# Altium schematic symbol library 封装库.SchLib: 191 symbols (part 3 of 3)
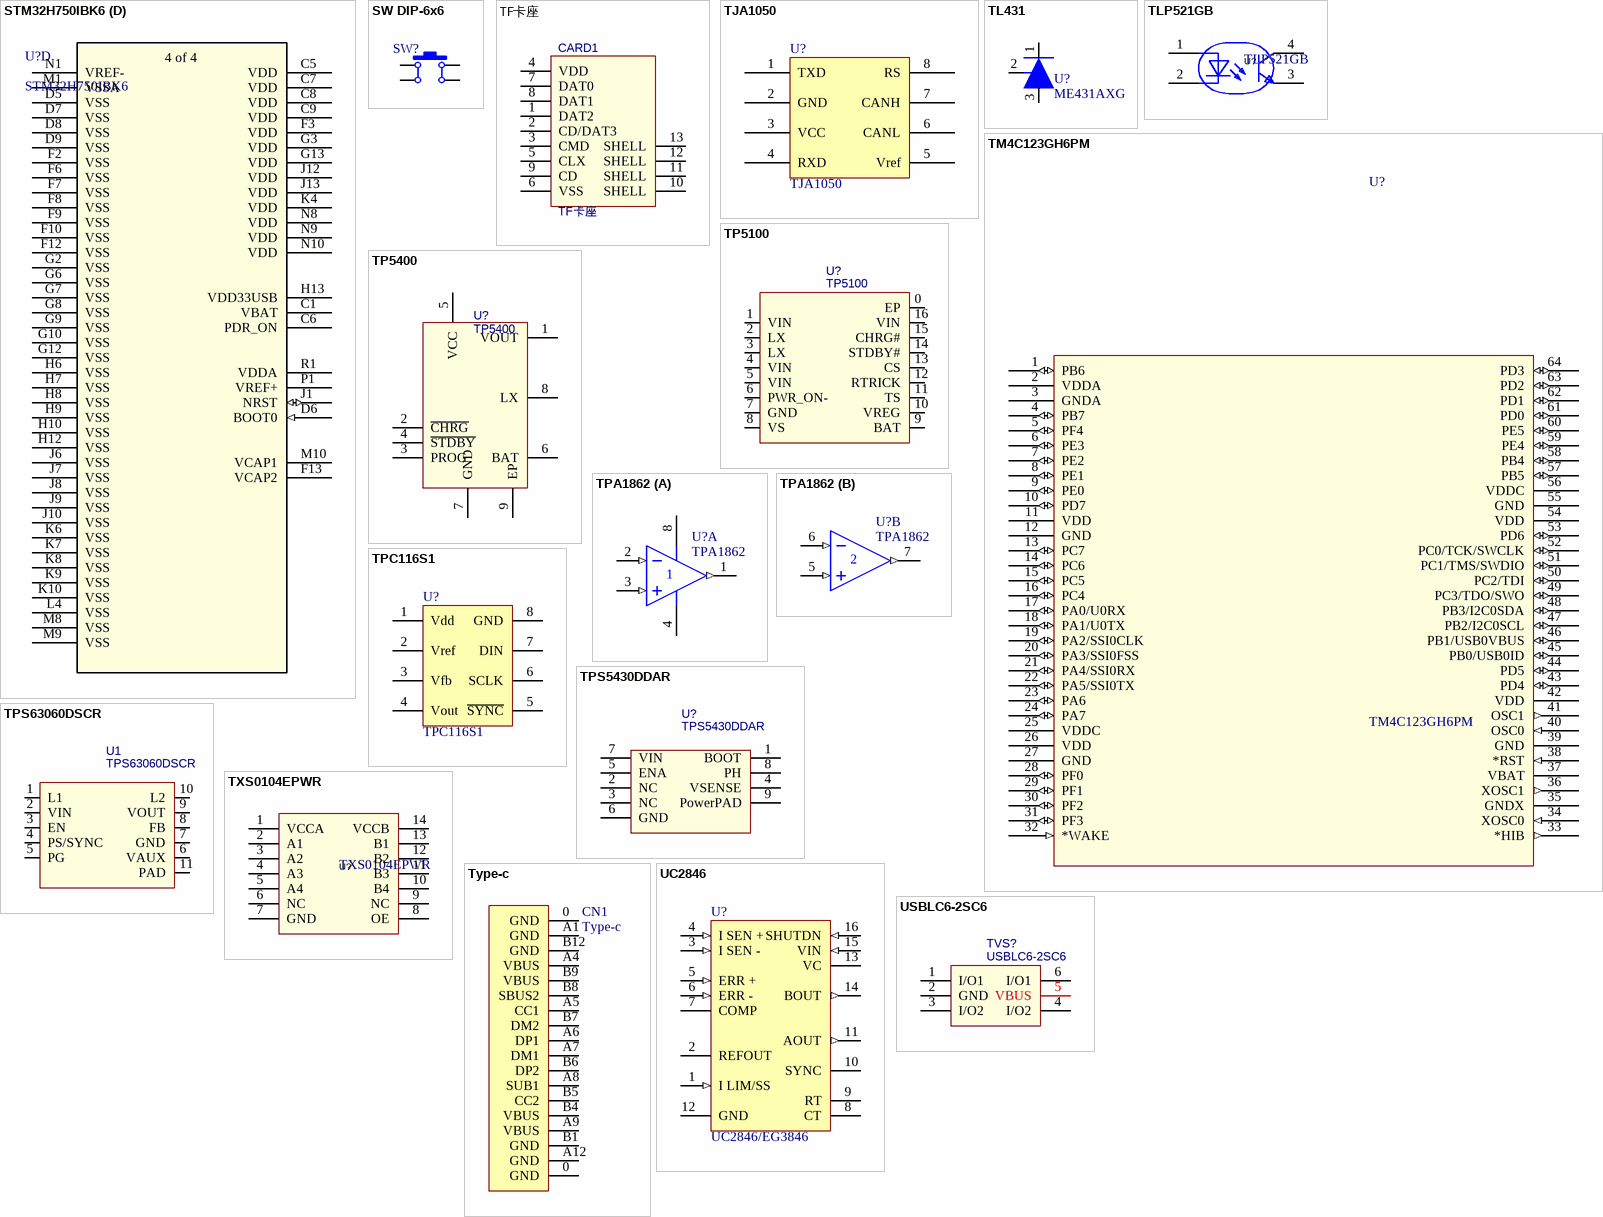
[diagram p15: symbols STM32H750IBK6 to USBLC6-2SC6]

## STM32H750IBK6
designator U?
No Description Available; Mfr_Name: STMicroelectronics; Copyright: Copyright (C) 2023 Ultra Librarian. All rights reserved.; Manufacturer_Part_Number: STM32H750IBK6; RefDes: RefDes; Type: DEV
footprint STM32H750IBK6
part A pins: A5 PB8 (io), A6 PB5 (io), A9 PB4 (io), A10 PB3 (io), A11 PD7 (io), A12 PC12 (io), A13 PA15 (io), A14 PA14 (io), A15 PA13 (io), B4 PB9 (io), B5 PB7 (io), B6 PB6 (io), B11 PD6 (io), B12 PD0 (io), B13 PC11 (io), B14 PC10 (io), B15 PA12 (io), C11 PD5 (io), C12 PD1 (io), C15 PA11 (io), D1 PC13 (io), D10 PD4 (io), D11 PD3 (io), D12 PD2 (io), D15 PA10 (io), E1 PC14-OSC32_IN (io), E15 PA9 (io), F1 PC15-OSC32_OUT (io), F14 PC9 (io), F15 PA8 (io), G14 PC8 (io), G15 PC7 (io), H15 PC6 (io), L14 PD15 (io), M2 PC0 (io), M3 PC1 (io), M4 PC2 (io), M5 PC3 (io), M6 PB2 (io), M14 PD14 (io), M15 PD13 (io), N2 PA1 (io), N3 PA0-WKUP (io), N4 PA4 (io), N5 PC4 (io), N13 PD12 (io), N14 PD11 (io), N15 PD10 (io), P2 PA2 (io), P3 PA6 (io), P4 PA5 (io), P5 PC5 (io), P12 PB12 (io), P13 PB13 (io), P14 PD9 (io), P15 PD8 (io), R2 PA3 (io), R3 PA7 (io), R4 PB1 (io), R5 PB0 (io), R12 PB10 (io), R13 PB11 (io), R14 PB14 (io), R15 PB15 (io)
part B pins: A1 PE3 (io), A2 PE2 (io), A3 PE1 (io), A4 PE0 (io), A7 PG14 (io), A8 PG13 (io), B1 PE4 (io), B2 PE5 (io), B3 PE6 (io), B7 PG15 (io), B8 PG12 (io), B9 PG11 (io), B10 PG10 (io), C10 PG9 (io), D13 PH15 (io), E2 PF0 (io), E12 PH13 (io), E13 PH14 (io), F4 PH2 (io), G1 PH0-OSC_IN (io), G4 PH3 (io), H1 PH1-OSC_OUT (io), H2 PF2 (io), H3 PF1 (io), H4 PH4 (io), H14 PG8 (io), J2 PF3 (io), J3 PF4 (io), J4 PH5 (io), J14 PG7 (io), J15 PG6 (io), K1 PF7 (io), K2 PF6 (io), K3 PF5 (io), K12 PH12 (io), K13 PG5 (io), K14 PG4 (io), K15 PG3 (io), L1 PF10 (io), L2 PF9 (io), L3 PF8 (io), L12 PH11 (io), L13 PH10 (io), L15 PG2 (io), M7 PG1 (io), M11 PH6 (io), M12 PH8 (io), M13 PH9 (io), N6 PF13 (io), N7 PG0 (io), N11 PE13 (io), N12 PH7 (io), P6 PF12 (io), P7 PF15 (io), P8 PE8 (io), P9 PE9 (io), P10 PE11 (io), P11 PE14 (io), R6 PF11 (io), R7 PF14 (io), R8 PE7 (io), R9 PE10 (io), R10 PE12 (io), R11 PE15 (io)
part C pins: C2 PI7 (io), C3 PI6 (io), C4 PI5 (io), C13 PI3 (io), C14 PI2 (io), D2 PI8 (io), D3 PI9 (io), D4 PI4 (io), D14 PI1 (io), E3 PI10 (io), E4 PI11 (io), E14 PI0 (io)
part D pins: C1 VBAT (power), C5 VDD (power), C6 PDR_ON, C7 VDD (power), C8 VDD (power), C9 VDD (power), D5 VSS (power), D6 BOOT0 (in), D7 VSS (power), D8 VSS (power), D9 VSS (power), F2 VSS (power), F3 VDD (power), F6 VSS (power), F7 VSS (power), F8 VSS (power), F9 VSS (power), F10 VSS (power), F12 VSS (power), F13 VCAP2 (power), G2 VSS (power), G3 VDD (power), G6 VSS (power), G7 VSS (power), G8 VSS (power), G9 VSS (power), G10 VSS (power), G12 VSS (power), G13 VDD (power), H6 VSS (power), H7 VSS (power), H8 VSS (power), H9 VSS (power), H10 VSS (power), H12 VSS (power), H13 VDD33USB (power), J1 NRST (io), J6 VSS (power), J7 VSS (power), J8 VSS (power), J9 VSS (power), J10 VSS (power), J12 VDD (power), J13 VDD (power), K4 VDD (power), K6 VSS (power), K7 VSS (power), K8 VSS (power), K9 VSS (power), K10 VSS (power), L4 VSS (power), M1 VSSA (power), M8 VSS (power), M9 VSS (power), M10 VCAP1 (power), N1 VREF- (power), N8 VDD (power), N9 VDD (power), N10 VDD (power), P1 VREF+ (power), R1 VDDA (power)
part A text: 1 of 4
part B text: 2 of 4
part C text: 3 of 4
part D text: 4 of 4

## SW DIP-6x6
designator SW?, comment 6x6x5  (value not drawn)
直插6x6轻触开关; 联系卖家，免费查找封装: 唯一出售店铺网址https://shop463601444.taobao.com; 封装库来自淘宝卖家ID：黄晶宝石: 其他店铺购入均为盗版假冒封装库，请立即申请退款; BOM名称: 直插6x6轻触开关
footprint SW DIP-6x6
pins: 1, 2, 3, 4

## TF卡座
designator CARD1
BOM_Manufacturer: THD; BOM_Manufacturer Part: THD2528-11SD-GF; Contributor: LCSC; BOM_Supplier: LCSC; BOM_Supplier Part: C283232; BOM_JLCPCB Part Class: Extended Part; spicePre: C; spiceSymbolName: THD2528-11SD-GF
footprint TF
pins: 1 DAT2, 2 CD/DAT3, 3 CMD, 4 VDD, 5 CLX, 6 VSS, 7 DAT0, 8 DAT1, 9 CD, 10 SHELL, 11 SHELL, 12 SHELL, 13 SHELL

## TJA1050
designator U?
footprint SOP-8
pins: 1 TXD, 2 GND, 3 VCC, 4 RXD, 5 Vref, 6 CANL, 7 CANH, 8 RS

## TL431
designator U?, comment ME431AXG
footprint TL431
pins: 1 K, 2 REF, 3 A

## TLP521GB
designator U?
C364142 UWM; Symbol: TLP521GB_C364142; Designer: U?; Device: TLP521GB_C364142
footprint TLP521
pins: 1, 2, 3, 4

## TM4C123GH6PM
designator U?
footprint TM4C123G (64脚，体宽10x10mm，脚距0.5mm         淘宝ID:黄晶宝石)
pins: 1 PB6 (io), 2 VDDA (power), 3 GNDA (power), 4 PB7 (io), 5 PF4 (io), 6 PE3 (io), 7 PE2 (io), 8 PE1 (io), 9 PE0 (io), 10 PD7 (io), 11 VDD (power), 12 GND (power), 13 PC7 (io), 14 PC6 (io), 15 PC5 (io), 16 PC4 (io), 17 PA0/U0RX (io), 18 PA1/U0TX (io), 19 PA2/SSI0CLK (io), 20 PA3/SSI0FSS (io), 21 PA4/SSI0RX (io), 22 PA5/SSI0TX (io), 23 PA6 (io), 24 PA7 (io), 25 VDDC (power), 26 VDD (power), 27 GND (power), 28 PF0 (io), 29 PF1 (io), 30 PF2 (io), 31 PF3 (io), 32 *WAKE (in), 33 *HIB (out), 34 XOSC0 (in), 35 GNDX (power), 36 XOSC1 (out), 37 VBAT (power), 38 *RST (in), 39 GND (power), 40 OSC0 (in), 41 OSC1 (out), 42 VDD (power), 43 PD4 (io), 44 PD5 (io), 45 PB0/USB0ID (io), 46 PB1/USB0VBUS (io), 47 PB2/I2C0SCL (io), 48 PB3/I2C0SDA (io), 49 PC3/TDO/SWO (io), 50 PC2/TDI (io), 51 PC1/TMS/SWDIO (io), 52 PC0/TCK/SWCLK (io), 53 PD6 (io), 54 VDD (power), 55 GND (power), 56 VDDC (power), 57 PB5 (io), 58 PB4 (io), 59 PE4 (io), 60 PE5 (io), 61 PD0 (io), 62 PD1 (io), 63 PD2 (io), 64 PD3 (io)

## TP5100
designator U?
TP5100_C379389; BOM_Manufacturer: Nanjing Extension Microelectronics; Contributor: LCSC; BOM_Supplier: LCSC; BOM_Supplier Part: C379389; BOM_Manufacturer Part: TP5100; BOM_JLCPCB Part Class: Extended Part; spicePre: U; spiceSymbolName: TP5100_C379389
footprint TP5100
pins: 0 EP, 1 VIN, 2 LX, 3 LX, 4 VIN, 5 VIN, 6 PWR_ON-, 7 GND, 8 VS, 9 BAT, 10 VREG, 11 TS, 12 RTRICK, 13 CS, 14 STDBY#, 15 CHRG#, 16 VIN

## TP5400
designator U?
C2891434; BOM_Manufacturer: TOPPOWER(南京拓微); Contributor: LCSC; BOM_Supplier: LCSC; BOM_Supplier Part: C2891434; BOM_Manufacturer Part: TP5400; BOM_JLCPCB Part Class: Extended Part; spicePre: U; spiceSymbolName: TP5400_C2891434
footprint TP5400 (5*6*1.8mm（长宽高)
pins: 1 VOUT, 2 ~{CHRG}, 3 PROG, 4 ~{STDBY}, 5 VCC, 6 BAT, 7 GND, 8 LX, 9 EP

## TPA1862
designator U?
Dual Operational Amplifier; Published: 15-Apr-2002; LatestRevisionDate: 13-Apr-2006; LatestRevisionNote: IPC-7351 Footprint Added.; DatasheetVersion: Aug-1988; PackageVersion: Jan-1998; PackageReference: D008; Publisher: Altium Limited; PackageDescription: 8-Pin Small Outline Integrated Circuit 1.27 mm Pitch; Code_IPC: SOIC127P600-8; ComponentLink1Description: Manufacturer Link; ComponentLink1URL: http://www.ti.com/; ComponentLink2Description: Datasheet; ComponentLink2URL: http://www-s.ti.com/sc/ds/lm258.pdf
footprint TPA1862-MSOP8 (塑封体长3mm，宽3mm，脚距0.65          淘宝ID:黄晶宝石)
footprint MSOP8 (塑封体长3mm，宽3mm，脚距0.65          淘宝ID:黄晶宝石)
part A pins: 1 OUT (out), 2 IN- (in), 3 IN+ (in), 4, 8
part B pins: 5 IN+ (in), 6 IN- (in), 7 OUT (out)

## TPC116S1
designator U?
footprint TPC116S1-MSOP8 (塑封体长3mm，宽3mm，脚距0.65          淘宝ID:黄晶宝石)
pins: 1 Vdd (power), 2 Vref (power), 3 Vfb, 4 Vout, 5 ~{SYNC}, 6 SCLK, 7 DIN, 8 GND (power)

## TPS5430DDAR
designator U?
BOM_Manufacturer: TI; BOM_Supplier: LCSC; BOM_Manufacturer Part: TPS5430DDAR; BOM_Supplier Part: C9864; BOM_JLCPCB Part Class: Basic Part; spicePre: U; spiceSymbolName: TPS5430DDAR
footprint TPS5430 (5*6*1.8mm（长宽高)
pins: 1 BOOT, 2 NC, 3 NC, 4 VSENSE, 5 ENA, 6 GND, 7 VIN, 8 PH, 9 PowerPAD

## TPS63060DSCR
designator U1
BOM_Manufacturer: TI; BOM_Supplier: LCSC; BOM_Manufacturer Part: TPS63060DSCR; BOM_Supplier Part: C48567; BOM_JLCPCB Part Class: Extended Part; spicePre: U; spiceSymbolName: TPS63060DSCR
footprint TPS63060DSCR
pins: 1 L1, 2 VIN, 3 EN, 4 PS/SYNC, 5 PG, 6 VAUX, 7 GND, 8 FB, 9 VOUT, 10 L2, 11 PAD

## TXS0104EPWR
designator U?
Manufacturer: TI(德州仪器); Add into BOM: yes; Channel Type: 双向; Number of Circuits: 1; Channels per Circuit: 4; Supply Voltage (VCCA): 1.65V~3.6V; Supply Voltage (VCCB): 2.3V~5.5V; Output Type: 推挽式；开路漏极; Data Rate: 24Mbps; Name: TXS0104EPWR; Symbol: TXS0104EPWR; Device: TXS0104EPWR; LCSC Part Name: TXS0104EPWR; Supplier Part: C44955; Manufacturer Part: TXS0104EPWR; Supplier Footprint: TSSOP-14; JLCPCB Part Class: Extended Part; Datasheet: https://www.ti.com/cn/lit/gpn/txs0104e; Supplier: LCSC; Convert to PCB: yes; Operating Temperature: -40℃~+85℃; Features: 自动方向检测
footprint TXS0104EPWR
pins: 1 VCCA, 2 A1, 3 A2, 4 A3, 5 A4, 6 NC, 7 GND, 8 OE, 9 NC, 10 B4, 11 B3, 12 B2, 13 B1, 14 VCCB

## Type-c
designator CN1
U262-161N-4BVC11
footprint Type-c 16pin
pins: 0 GND, 0 GND, A1 GND, A4 VBUS, A5 CC1, A6 DP1, A7 DM1, A8 SUB1, A9 VBUS, A12 GND, B1 GND, B4 VBUS, B5 CC2, B6 DP2, B7 DM2, B8 SBUS2, B9 VBUS, B12 GND

## UC2846
designator U?, comment UC2846/EG3846
footprint UC2846-SOIC-16 (SOIC, 16-Leads, Body 10.3x7.5mm, Pitch 1.27mm, IPC Medium Density)
pins: 1 I LIM/SS (in), 2 REFOUT (power), 3 I SEN - (in), 4 I SEN + (in), 5 ERR + (in), 6 ERR - (in), 7 COMP, 8 CT, 9 RT, 10 SYNC, 11 AOUT (out), 12 GND (power), 13 VC (power), 14 BOUT (out), 15 VIN (in), 16 SHUTDN (in)

## USBLC6-2SC6
designator TVS?
USBLC6-2SC6_C2687116; BOM_Manufacturer: UMW(友台半导体); Contributor: LCSC; BOM_Supplier: LCSC; BOM_Supplier Part: C2687116; BOM_Manufacturer Part: USBLC6-2SC6; BOM_JLCPCB Part Class: Extended Part; spicePre: D; spiceSymbolName: USBLC6-2SC6_C2687116
footprint USBLC6-2
pins: 1 I/O1, 2 GND, 3 I/O2, 4 I/O2, 5 VBUS, 6 I/O1

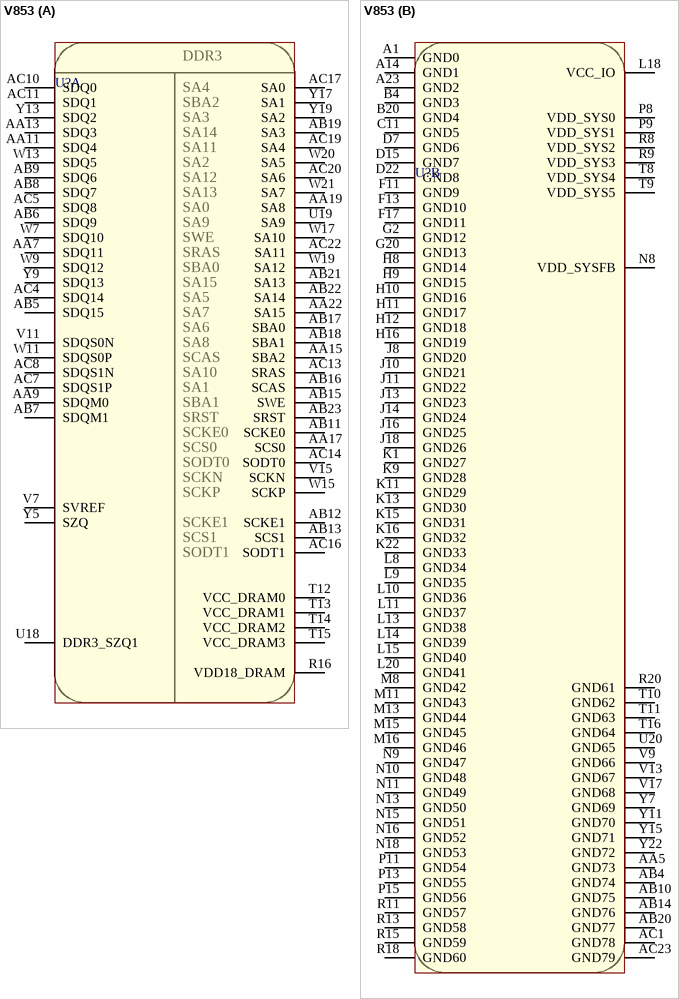
[diagram p11: symbol V853]

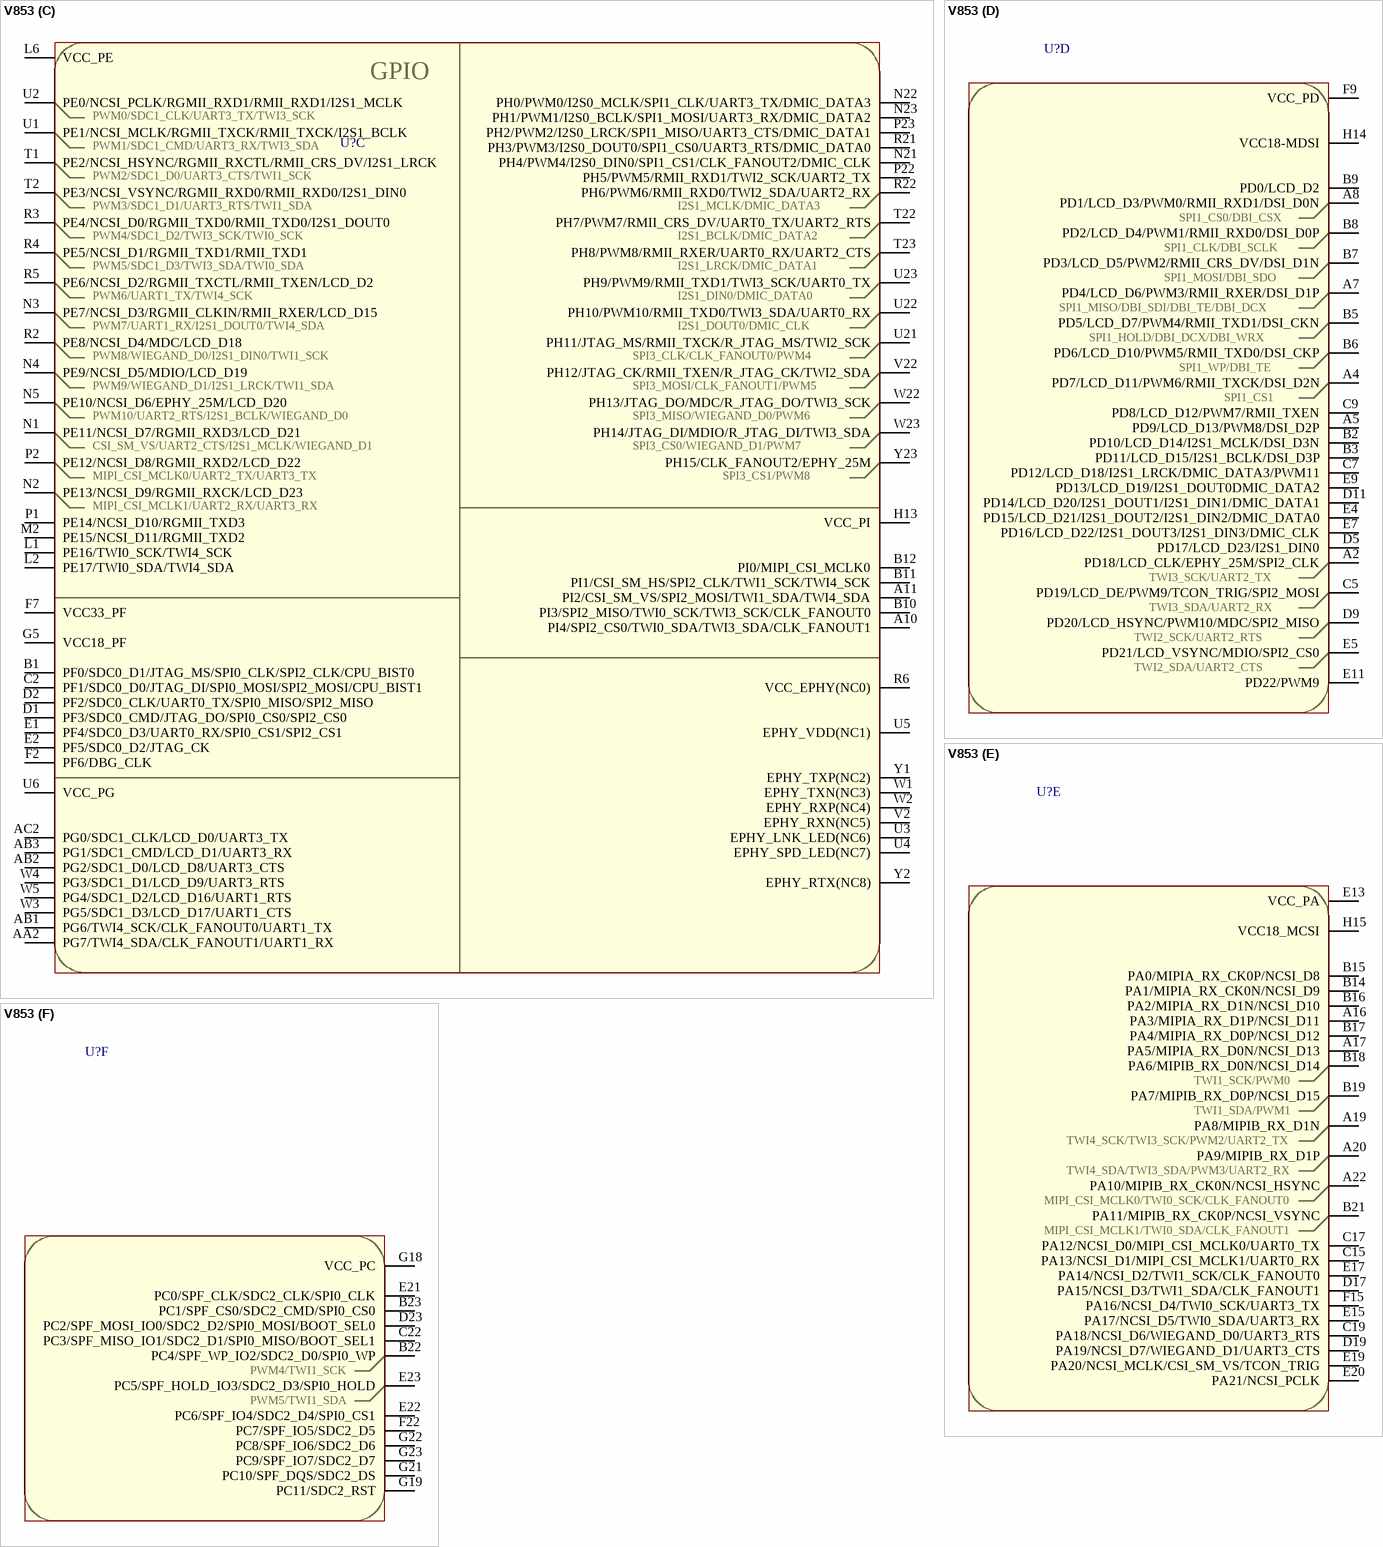
[diagram p12: symbol V853]

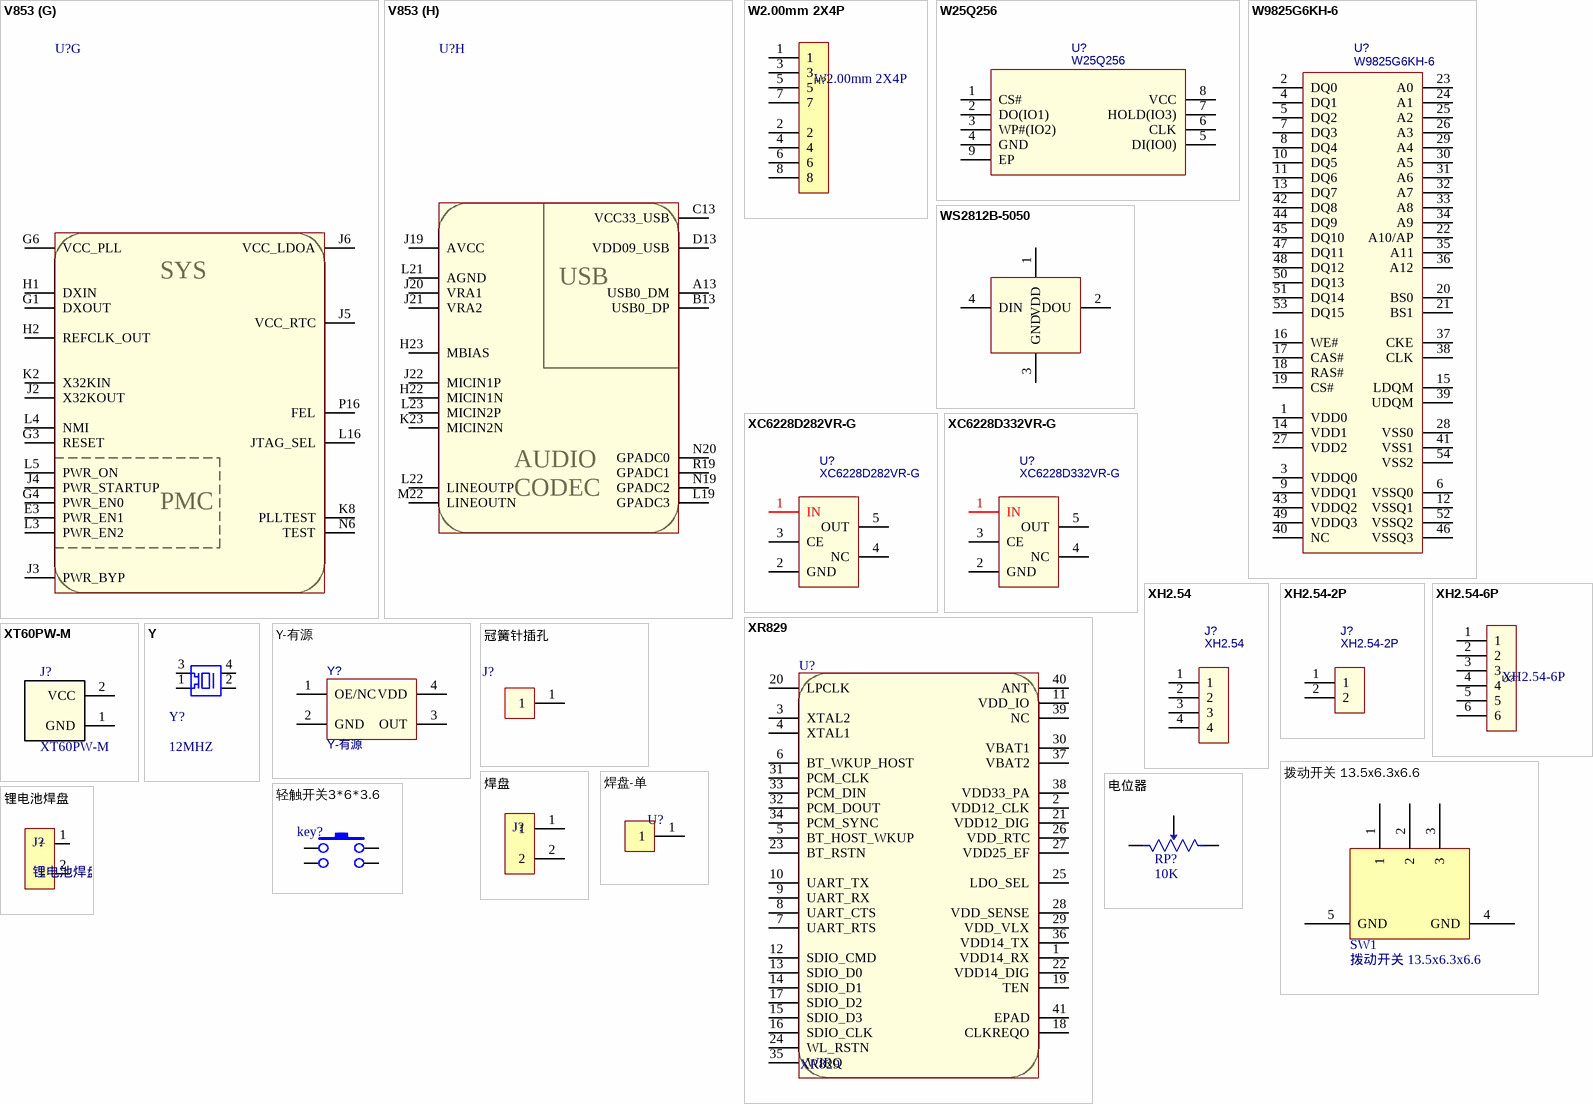
[diagram p13: symbols V853 to 锂电池焊盘]

## V853
designator U?, comment v853  (value not drawn)
Convert to PCB: yes; Symbol: V853; Device: v853; Add into BOM: yes
footprint V853
part A pins: AA7 SDQ11, AA9 SDQM0, AA11 SDQ4, AA13 SDQ3, AA15 SBA2, AA17 SCS0, AA19 SA8, AA22 SA15, AB5 SDQ15, AB6 SDQ9, AB7 SDQM1, AB8 SDQ7, AB9 SDQ6, AB11 SCKE0, AB12 SCKE1, AB13 SCS1, AB15 SWE, AB16 SCAS, AB17 SBA0, AB18 SBA1, AB19 SA3, AB21 SA13, AB22 SA14, AB23 SRST, AC4 SDQ14, AC5 SDQ8, AC7 SDQS1P, AC8 SDQS1N, AC10 SDQ0, AC11 SDQ1, AC13 SRAS, AC14 SODT0, AC16 SODT1, AC17 SA0, AC19 SA4, AC20 SA6, AC22 SA11, R16 VDD18_DRAM, T12 VCC_DRAM0, T13 VCC_DRAM1, T14 VCC_DRAM2, T15 VCC_DRAM3, U18 DDR3_SZQ1, U19 SA9, V7 SVREF, V11 SDQS0N, V15 SCKN, W7 SDQ10, W9 SDQ12, W11 SDQS0P, W13 SDQ5, W15 SCKP, W17 SA10, W19 SA12, W20 SA5, W21 SA7, Y5 SZQ, Y9 SDQ13, Y13 SDQ2, Y17 SA1, Y19 SA2
part B pins: A1 GND0, A14 GND1, A23 GND2, AA5 GND73, AB4 GND74, AB10 GND75, AB14 GND76, AB20 GND77, AC1 GND78, AC23 GND79, B4 GND3, B20 GND4, C11 GND5, D7 GND6, D15 GND7, D22 GND8, F11 GND9, F13 GND10, F17 GND11, G2 GND12, G20 GND13, H8 GND14, H9 GND15, H10 GND16, H11 GND17, H12 GND18, H16 GND19, J8 GND20, J10 GND21, J11 GND22, J13 GND23, J14 GND24, J16 GND25, J18 GND26, K1 GND27, K9 GND28, K11 GND29, K13 GND30, K15 GND31, K16 GND32, K22 GND33, L8 GND34, L9 GND35, L10 GND36, L11 GND37, L13 GND38, L14 GND39, L15 GND40, L18 VCC_IO, L20 GND41, M8 GND42, M11 GND43, M13 GND44, M15 GND45, M16 GND46, N8 VDD_SYSFB, N9 GND47, N10 GND48, N11 GND49, N13 GND50, N15 GND51, N16 GND52, N18 GND53, P8 VDD_SYS0, P9 VDD_SYS1, P11 GND54, P13 GND55, P15 GND56, R8 VDD_SYS2, R9 VDD_SYS3, R11 GND57, R13 GND58, R15 GND59, R18 GND60, R20 GND61, T8 VDD_SYS4, T9 VDD_SYS5, T10 GND62, T11 GND63, T16 GND64, U20 GND65, V9 GND66, V13 GND67, V17 GND68, Y7 GND69, Y11 GND70, Y15 GND71, Y22 GND72
part C pins: A10 PI4/SPI2_CS0/TWI0_SDA/TWI3_SDA/CLK_FANOUT1, A11 PI2/CSI_SM_VS/SPI2_MOSI/TWI1_SDA/TWI4_SDA, AA2 PG7/TWI4_SDA/CLK_FANOUT1/UART1_RX, AB1 PG6/TWI4_SCK/CLK_FANOUT0/UART1_TX, AB2 PG2/SDC1_D0/LCD_D8/UART3_CTS, AB3 PG1/SDC1_CMD/LCD_D1/UART3_RX, AC2 PG0/SDC1_CLK/LCD_D0/UART3_TX, B1 PF0/SDC0_D1/JTAG_MS/SPI0_CLK/SPI2_CLK/CPU_BIST0, B10 PI3/SPI2_MISO/TWI0_SCK/TWI3_SCK/CLK_FANOUT0, B11 PI1/CSI_SM_HS/SPI2_CLK/TWI1_SCK/TWI4_SCK, B12 PI0/MIPI_CSI_MCLK0, C2 PF1/SDC0_D0/JTAG_DI/SPI0_MOSI/SPI2_MOSI/CPU_BIST1, D1 PF3/SDC0_CMD/JTAG_DO/SPI0_CS0/SPI2_CS0, D2 PF2/SDC0_CLK/UART0_TX/SPI0_MISO/SPI2_MISO, E1 PF4/SDC0_D3/UART0_RX/SPI0_CS1/SPI2_CS1, E2 PF5/SDC0_D2/JTAG_CK, F2 PF6/DBG_CLK, F7 VCC33_PF, G5 VCC18_PF, H13 VCC_PI, L1 PE16/TWI0_SCK/TWI4_SCK, L2 PE17/TWI0_SDA/TWI4_SDA, L6 VCC_PE, M2 PE15/NCSI_D11/RGMII_TXD2, N1 PE11/NCSI_D7/RGMII_RXD3/LCD_D21, N2 PE13/NCSI_D9/RGMII_RXCK/LCD_D23, N3 PE7/NCSI_D3/RGMII_CLKIN/RMII_RXER/LCD_D15, N4 PE9/NCSI_D5/MDIO/LCD_D19, N5 PE10/NCSI_D6/EPHY_25M/LCD_D20, N21 PH4/PWM4/I2S0_DIN0/SPI1_CS1/CLK_FANOUT2/DMIC_CLK, N22 PH0/PWM0/I2S0_MCLK/SPI1_CLK/UART3_TX/DMIC_DATA3, N23 PH1/PWM1/I2S0_BCLK/SPI1_MOSI/UART3_RX/DMIC_DATA2, P1 PE14/NCSI_D10/RGMII_TXD3, P2 PE12/NCSI_D8/RGMII_RXD2/LCD_D22, P22 PH5/PWM5/RMII_RXD1/TWI2_SCK/UART2_TX, P23 PH2/PWM2/I2S0_LRCK/SPI1_MISO/UART3_CTS/DMIC_DATA1, R2 PE8/NCSI_D4/MDC/LCD_D18, R3 PE4/NCSI_D0/RGMII_TXD0/RMII_TXD0/I2S1_DOUT0, R4 PE5/NCSI_D1/RGMII_TXD1/RMII_TXD1, R5 PE6/NCSI_D2/RGMII_TXCTL/RMII_TXEN/LCD_D2, R6 VCC_EPHY(NC0), R21 PH3/PWM3/I2S0_DOUT0/SPI1_CS0/UART3_RTS/DMIC_DATA0, R22 PH6/PWM6/RMII_RXD0/TWI2_SDA/UART2_RX, T1 PE2/NCSI_HSYNC/RGMII_RXCTL/RMII_CRS_DV/I2S1_LRCK, T2 PE3/NCSI_VSYNC/RGMII_RXD0/RMII_RXD0/I2S1_DIN0, T22 PH7/PWM7/RMII_CRS_DV/UART0_TX/UART2_RTS, T23 PH8/PWM8/RMII_RXER/UART0_RX/UART2_CTS, U1 PE1/NCSI_MCLK/RGMII_TXCK/RMII_TXCK/I2S1_BCLK, U2 PE0/NCSI_PCLK/RGMII_RXD1/RMII_RXD1/I2S1_MCLK, U3 EPHY_LNK_LED(NC6), U4 EPHY_SPD_LED(NC7), U5 EPHY_VDD(NC1), U6 VCC_PG, U21 PH11/JTAG_MS/RMII_TXCK/R_JTAG_MS/TWI2_SCK, U22 PH10/PWM10/RMII_TXD0/TWI3_SDA/UART0_RX, U23 PH9/PWM9/RMII_TXD1/TWI3_SCK/UART0_TX, V2 EPHY_RXN(NC5), V22 PH12/JTAG_CK/RMII_TXEN/R_JTAG_CK/TWI2_SDA, W1 EPHY_TXN(NC3), W2 EPHY_RXP(NC4), W3 PG5/SDC1_D3/LCD_D17/UART1_CTS, W4 PG3/SDC1_D1/LCD_D9/UART3_RTS, W5 PG4/SDC1_D2/LCD_D16/UART1_RTS, W22 PH13/JTAG_DO/MDC/R_JTAG_DO/TWI3_SCK, W23 PH14/JTAG_DI/MDIO/R_JTAG_DI/TWI3_SDA, Y1 EPHY_TXP(NC2), Y2 EPHY_RTX(NC8), Y23 PH15/CLK_FANOUT2/EPHY_25M
part D pins: A2 PD18/LCD_CLK/EPHY_25M/SPI2_CLK, A4 PD7/LCD_D11/PWM6/RMII_TXCK/DSI_D2N, A5 PD9/LCD_D13/PWM8/DSI_D2P, A7 PD4/LCD_D6/PWM3/RMII_RXER/DSI_D1P, A8 PD1/LCD_D3/PWM0/RMII_RXD1/DSI_D0N, B2 PD10/LCD_D14/I2S1_MCLK/DSI_D3N, B3 PD11/LCD_D15/I2S1_BCLK/DSI_D3P, B5 PD5/LCD_D7/PWM4/RMII_TXD1/DSI_CKN, B6 PD6/LCD_D10/PWM5/RMII_TXD0/DSI_CKP, B7 PD3/LCD_D5/PWM2/RMII_CRS_DV/DSI_D1N, B8 PD2/LCD_D4/PWM1/RMII_RXD0/DSI_D0P, B9 PD0/LCD_D2, C5 PD19/LCD_DE/PWM9/TCON_TRIG/SPI2_MOSI, C7 PD12/LCD_D18/I2S1_LRCK/DMIC_DATA3/PWM11, C9 PD8/LCD_D12/PWM7/RMII_TXEN, D5 PD17/LCD_D23/I2S1_DIN0, D9 PD20/LCD_HSYNC/PWM10/MDC/SPI2_MISO, D11 PD14/LCD_D20/I2S1_DOUT1/I2S1_DIN1/DMIC_DATA1, E4 PD15/LCD_D21/I2S1_DOUT2/I2S1_DIN2/DMIC_DATA0, E5 PD21/LCD_VSYNC/MDIO/SPI2_CS0, E7 PD16/LCD_D22/I2S1_DOUT3/I2S1_DIN3/DMIC_CLK, E9 PD13/LCD_D19/I2S1_DOUT0DMIC_DATA2, E11 PD22/PWM9, F9 VCC_PD, H14 VCC18-MDSI
part E pins: A16 PA3/MIPIA_RX_D1P/NCSI_D11, A17 PA5/MIPIA_RX_D0N/NCSI_D13, A19 PA8/MIPIB_RX_D1N, A20 PA9/MIPIB_RX_D1P, A22 PA10/MIPIB_RX_CK0N/NCSI_HSYNC, B14 PA1/MIPIA_RX_CK0N/NCSI_D9, B15 PA0/MIPIA_RX_CK0P/NCSI_D8, B16 PA2/MIPIA_RX_D1N/NCSI_D10, B17 PA4/MIPIA_RX_D0P/NCSI_D12, B18 PA6/MIPIB_RX_D0N/NCSI_D14, B19 PA7/MIPIB_RX_D0P/NCSI_D15, B21 PA11/MIPIB_RX_CK0P/NCSI_VSYNC, C15 PA13/NCSI_D1/MIPI_CSI_MCLK1/UART0_RX, C17 PA12/NCSI_D0/MIPI_CSI_MCLK0/UART0_TX, C19 PA18/NCSI_D6/WIEGAND_D0/UART3_RTS, D17 PA15/NCSI_D3/TWI1_SDA/CLK_FANOUT1, D19 PA19/NCSI_D7/WIEGAND_D1/UART3_CTS, E13 VCC_PA, E15 PA17/NCSI_D5/TWI0_SDA/UART3_RX, E17 PA14/NCSI_D2/TWI1_SCK/CLK_FANOUT0, E19 PA20/NCSI_MCLK/CSI_SM_VS/TCON_TRIG, E20 PA21/NCSI_PCLK, F15 PA16/NCSI_D4/TWI0_SCK/UART3_TX, H15 VCC18_MCSI
part F pins: B22 PC4/SPF_WP_IO2/SDC2_D0/SPI0_WP, B23 PC1/SPF_CS0/SDC2_CMD/SPI0_CS0, C22 PC3/SPF_MISO_IO1/SDC2_D1/SPI0_MISO/BOOT_SEL1, D23 PC2/SPF_MOSI_IO0/SDC2_D2/SPI0_MOSI/BOOT_SEL0, E21 PC0/SPF_CLK/SDC2_CLK/SPI0_CLK, E22 PC6/SPF_IO4/SDC2_D4/SPI0_CS1, E23 PC5/SPF_HOLD_IO3/SDC2_D3/SPI0_HOLD, F22 PC7/SPF_IO5/SDC2_D5, G18 VCC_PC, G19 PC11/SDC2_RST, G21 PC10/SPF_DQS/SDC2_DS, G22 PC8/SPF_IO6/SDC2_D6, G23 PC9/SPF_IO7/SDC2_D7
part G pins: E3 PWR_EN1, G1 DXOUT, G3 RESET, G4 PWR_EN0, G6 VCC_PLL, H1 DXIN, H2 REFCLK_OUT, J2 X32KOUT, J3 PWR_BYP, J4 PWR_STARTUP, J5 VCC_RTC, J6 VCC_LDOA, K2 X32KIN, K8 PLLTEST, L3 PWR_EN2, L4 NMI, L5 PWR_ON, L16 JTAG_SEL, N6 TEST, P16 FEL
part H pins: A13 USB0_DM, B13 USB0_DP, C13 VCC33_USB, D13 VDD09_USB, H22 MICIN1N, H23 MBIAS, J19 AVCC, J20 VRA1, J21 VRA2, J22 MICIN1P, K23 MICIN2N, L19 GPADC3, L21 AGND, L22 LINEOUTP, L23 MICIN2P, M22 LINEOUTN, N19 GPADC2, N20 GPADC0, R19 GPADC1
part A text: DDR3
part C text: GPIO; PWM0/SDC1_CLK/UART3_TX/TWI3_SCK; PWM1/SDC1_CMD/UART3_RX/TWI3_SDA; PWM2/SDC1_D0/UART3_CTS/TWI1_SCK; PWM3/SDC1_D1/UART3_RTS/TWI1_SDA; I2S1_MCLK/DMIC_DATA3; PWM4/SDC1_D2/TWI3_SCK/TWI0_SCK; I2S1_BCLK/DMIC_DATA2; PWM5/SDC1_D3/TWI3_SDA/TWI0_SDA; I2S1_LRCK/DMIC_DATA1; PWM6/UART1_TX/TWI4_SCK; I2S1_DIN0/DMIC_DATA0; PWM7/UART1_RX/I2S1_DOUT0/TWI4_SDA; I2S1_DOUT0/DMIC_CLK; PWM8/WIEGAND_D0/I2S1_DIN0/TWI1_SCK; SPI3_CLK/CLK_FANOUT0/PWM4; PWM9/WIEGAND_D1/I2S1_LRCK/TWI1_SDA; SPI3_MOSI/CLK_FANOUT1/PWM5; PWM10/UART2_RTS/I2S1_BCLK/WIEGAND_D0; SPI3_MISO/WIEGAND_D0/PWM6; CSI_SM_VS/UART2_CTS/I2S1_MCLK/WIEGAND_D1; SPI3_CS0/WIEGAND_D1/PWM7; MIPI_CSI_MCLK0/UART2_TX/UART3_TX; SPI3_CS1/PWM8; MIPI_CSI_MCLK1/UART2_RX/UART3_RX
part D text: SPI1_CS0/DBI_CSX; SPI1_CLK/DBI_SCLK; SPI1_MOSI/DBI_SDO; SPI1_MISO/DBI_SDI/DBI_TE/DBI_DCX; SPI1_HOLD/DBI_DCX/DBI_WRX; SPI1_WP/DBI_TE; SPI1_CS1; TWI3_SCK/UART2_TX; TWI3_SDA/UART2_RX; TWI2_SCK/UART2_RTS; TWI2_SDA/UART2_CTS
part E text: TWI1_SCK/PWM0; TWI1_SDA/PWM1; TWI4_SCK/TWI3_SCK/PWM2/UART2_TX; TWI4_SDA/TWI3_SDA/PWM3/UART2_RX; MIPI_CSI_MCLK0/TWI0_SCK/CLK_FANOUT0; MIPI_CSI_MCLK1/TWI0_SDA/CLK_FANOUT1
part F text: PWM4/TWI1_SCK; PWM5/TWI1_SDA
part G text: SYS; PMC
part H text: USB; AUDIO / CODEC

## W2.00mm 2X4P
designator H?
Manufacturer: HCTL(华灿天禄); Name: PZ200-2-04-W; Add into BOM: yes; Pitch: 2mm; Circluar Pins/Square Pins: 方针; Current Rating (Max): 1.5A; Symbol: PZ200-2-04-W; Device: PZ200-2-04-W; LCSC Part Name: 2mm 2x4P 弯插 方针; Supplier Part: C2906010; Manufacturer Part: PZ200-2-04-W; Supplier Footprint: 插件,P=2mm; JLCPCB Part Class: Extended Part; Supplier: LCSC; Convert to PCB: yes; Number of Pins: 8; Number of Rows: 2; Pin Structure: 2x4P; Row Spacing: 2mm; Mounting Type: 弯插; Voltage Rating (Max): -; Length of Mating Pin: 4mm; Insulation Height: 2mm; Length of End Connection Pin: -; Operating Temperature Range: -40℃~+105℃; Color: 黑色
footprint HDR-TH_8P-P2.00-male
footprint HDR-SMD_8P-P2.00-female
footprint HDR-SMD_8P-P2.00-MALE
pins: 1, 2, 3, 4, 5, 6, 7, 8

## W25Q256
designator U?
BOM_Manufacturer: WINBOND(华邦); BOM_Manufacturer Part: W25Q256JVEIQ; Contributor: LCSC; BOM_Supplier: LCSC; BOM_Supplier Part: C2682312; BOM_JLCPCB Part Class: Extended Part; spicePre: U; spiceSymbolName: W25Q256JVEIQ
footprint W25Q256
footprint W25QXX_WSON_8_5*6mm
pins: 1 CS#, 2 DO(IO1), 3 WP#(IO2), 4 GND, 5 DI(IO0), 6 CLK, 7 HOLD(IO3), 8 VCC, 9 EP

## W9825G6KH-6
designator U?
BOM_Manufacturer: WINBOND; BOM_Supplier: LCSC; BOM_Manufacturer Part: W9825G6KH-6; BOM_Supplier Part: C62246; BOM_JLCPCB Part Class: Extended Part; spicePre: U; spiceSymbolName: W9825G6KH-6
footprint W9825G6KH-6
pins: 1 VDD0, 2 DQ0, 3 VDDQ0, 4 DQ1, 5 DQ2, 6 VSSQ0, 7 DQ3, 8 DQ4, 9 VDDQ1, 10 DQ5, 11 DQ6, 12 VSSQ1, 13 DQ7, 14 VDD1, 15 LDQM, 16 WE#, 17 CAS#, 18 RAS#, 19 CS#, 20 BS0, 21 BS1, 22 A10/AP, 23 A0, 24 A1, 25 A2, 26 A3, 27 VDD2, 28 VSS0, 29 A4, 30 A5, 31 A6, 32 A7, 33 A8, 34 A9, 35 A11, 36 A12, 37 CKE, 38 CLK, 39 UDQM, 40 NC, 41 VSS1, 42 DQ8, 43 VDDQ2, 44 DQ9, 45 DQ10, 46 VSSQ3, 47 DQ11, 48 DQ12, 49 VDDQ3, 50 DQ13, 51 DQ14, 52 VSSQ2, 53 DQ15, 54 VSS2

## WS2812B-5050
designator LED?  (value not drawn)
Manufacturer: XINGLIGHT(成兴光); Name: XL-5050RGBC-WS2812B; Add into BOM: yes; Emitted Color: RGB三色; Lens Color: 无色透明; Peak Wavelength: 625nm；470nm；530nm; Viewing Angle: 120°; Mounting Sytle: 正贴; Symbol: XL-5050RGBC-WS2812B; Device: XL-5050RGBC-WS2812B; LCSC Part Name: RGB三色 正贴 幻彩; Supplier Part: C2843785; Manufacturer Part: XL-5050RGBC-WS2812B; Supplier Footprint: SMD5050; JLCPCB Part Class: Extended Part; Datasheet: https://atta.szlcsc.com/upload/public/pdf/source/20230111/86AAD2096485A2E5BCAB883FF8CBE6FD.pdf; Supplier: LCSC; Convert to PCB: yes; Diode Configuration: -; Dominant Wavelength: -; Color Temperature: -; Forward Current: -; Power Dissipation: -; Operating Temperature: -30℃~+70℃
footprint WS2812B-5050
pins: 1 VDD, 2 DOU, 3 GND, 4 DIN

## XC6228D282VR-G
designator U?
输出类型：固定 输出极性：正 输出通道数：1 最大输入电压：5.5V 输出电压：2.8V 压差：305mV@(300mA) 输出电流：300mA 电源纹波抑制比(PSRR)：80dB@(1kHz) 3.3V固定输出，Iout=300mA，Vin=5.5V(Max); BOM_Manufacturer: TOREX; BOM_Manufacturer Part: XC6228D332VR-G; BOM_Supplier: LCSC; BOM_Supplier Part: C69841; BOM_JLCPCB Part Class: Extended Part; spicePre: U; spiceSymbolName: XC6228D332VR-G
footprint XC6228D332VR-G (SOT23, 5-Leads, Body 2.9x1.6mm, Pitch 0.95mm, IPC Medium Density)
pins: 1 IN, 2 GND, 3 CE, 4 NC, 5 OUT

## XC6228D332VR-G
designator U?
输出类型：固定 输出极性：正 输出通道数：1 最大输入电压：5.5V 输出电压：3.3V 压差：305mV@(300mA) 输出电流：300mA 电源纹波抑制比(PSRR)：80dB@(1kHz) 3.3V固定输出，Iout=300mA，Vin=5.5V(Max); BOM_Manufacturer: TOREX; BOM_Supplier: LCSC; BOM_Manufacturer Part: XC6228D332VR-G; BOM_Supplier Part: C69841; BOM_JLCPCB Part Class: Extended Part; spicePre: U; spiceSymbolName: XC6228D332VR-G
footprint XC6228D332VR-G (SOT23, 5-Leads, Body 2.9x1.6mm, Pitch 0.95mm, IPC Medium Density)
pins: 1 IN, 2 GND, 3 CE, 4 NC, 5 OUT

## XH2.54
designator J?
BOM_Manufacturer: 华宇创; BOM_Manufacturer Part: 2343U-205CNG1MNT01; Contributor: LCSC; BOM_Supplier: LCSC; BOM_Supplier Part: C350283; BOM_JLCPCB Part Class: Extended Part; spicePre: U; spiceSymbolName: 2343U-205CNG1MNT01
footprint XH2.54-WI-4P (接插件，4P)
pins: 1, 2, 3, 4

## XH2.54-2P
designator J?
BOM_Manufacturer: 华宇创; BOM_Manufacturer Part: 2343U-205CNG1MNT01; Contributor: LCSC; BOM_Supplier: LCSC; BOM_Supplier Part: C350283; BOM_JLCPCB Part Class: Extended Part; spicePre: U; spiceSymbolName: 2343U-205CNG1MNT01
footprint XH2.54-LI-2P (接插件，2P)
footprint XH2.54-WI-2P (接插件，2P)
pins: 1, 2

## XH2.54-6P
designator U?
Manufacturer: Bossie(博锡); Name: BX-XH2.54-6PWZ; Add into BOM: yes; Pins Structure: 1x6P; Pitch: 2.54mm; Gender: 公; Number of PINs Per Row: 6; Reference Series: XH; Current Rating (Max): 3A; Welding Temperature (Max): 260℃; Symbol: BX-XH2.54-6PWZ; Device: BX-XH2.54-6PWZ; LCSC Part Name: 1x6P 间距:2.54mm 弯插 系列:XH; Supplier Part: C18077846; Manufacturer Part: BX-XH2.54-6PWZ; Supplier Footprint: 插件,P=2.54mm; Datasheet: https://atta.szlcsc.com/upload/public/pdf/source/20231017/CBB5C16431C069D068E4B1F914DD7B12.pdf; Supplier: LCSC; Convert to PCB: yes; Mounting Style: 弯插; Row Spacing: -; Number of Rows: 1; Contact Material: 黄铜; Contact Plating: 锡; Operating Temperature Range: -25℃~+85℃
footprint XH2.54-6P
pins: 1, 2, 3, 4, 5, 6

## XR829
designator U?
Manufacturer: Allwinner; Pin Type: IN; Add into BOM: yes; Symbol: XR829; Device: XR829; Convert to PCB: yes
footprint XR829
pins: 1 VDD14_RX, 2 VDD12_CLK, 3 XTAL2, 4 XTAL1, 5 BT_HOST_WKUP, 6 BT_WKUP_HOST, 7 UART_RTS, 8 UART_CTS, 9 UART_RX, 10 UART_TX, 11 VDD_IO, 12 SDIO_CMD, 13 SDIO_D0, 14 SDIO_D1, 15 SDIO_D3, 16 SDIO_CLK, 17 SDIO_D2, 18 CLKREQO, 19 TEN, 20 LPCLK, 21 VDD12_DIG, 22 VDD14_DIG, 23 BT_RSTN, 24 WL_RSTN, 25 LDO_SEL, 26 VDD_RTC, 27 VDD25_EF, 28 VDD_SENSE, 29 VDD_VLX, 30 VBAT1, 31 PCM_CLK, 32 PCM_DOUT, 33 PCM_DIN, 34 PCM_SYNC, 35 WIRQ, 36 VDD14_TX, 37 VBAT2, 38 VDD33_PA, 39 NC, 40 ANT, 41 EPAD

## XT60PW-M
designator J?
PCB Power Connector; Manufacturer_Name: Amass; Manufacturer_Part_Number: XT60PW-F; Datasheet Link: https://www.tme.eu/sl/Document/ce4077e36b79046da520ca73227e15de/XT30PW%20SPEC.pdf; Height: 8.4mm
footprint XT60PW-M
pins: 1 GND, 2 VCC

## Y
designator Y?, comment 12MHZ
无源晶振
footprint 3225
pins: 1 XTAL1, 2 GND, 3 XTAL3, 4 GND

## Y-有源
designator Y?
有源晶振; BOM_Manufacturer: YXC扬兴科技; BOM_Manufacturer Part: OT322540MJBA4SL; nameAlias: Frequency; Contributor: LCSC; BOM_Supplier: LCSC; BOM_Supplier Part: C2831396; BOM_JLCPCB Part Class: Extended Part; spicePre: X; spiceSymbolName: OT322540MJBA4SL
footprint 3225
pins: 1 OE/NC, 2 GND, 3 OUT, 4 VDD

## 冠簧针插孔
designator J?
footprint 冠簧针插孔-2.5mm
pins: 1

## 拨动开关 13.5x6.3x6.6
designator SW1
SS-12D11G5R
footprint 拨动开关 13.5x6.3x6.6
pins: 1, 2, 3, 4 GND, 5 GND

## 焊盘
designator J?
footprint 接口
pins: 1, 2

## 焊盘-单
designator U?
footprint 焊盘-单
pins: 1

## 电位器
designator RP?, comment 10K
BOM名称: 插件电位器; 当前库版本V2023.8.14 @淘宝卖家:黄晶宝石: 最新版本发布https://item.taobao.com/item.htm?id=566775463719; 联系下单店铺卖家 免费帮你查找封装: 联系下单店铺卖家 免费技术支持
footprint 3266X (长：7mm，宽：4.8mm，高：7.5mm)
pins: 1, 2, 3

## 轻触开关3*6*3.6
designator key?, comment KEY  (value not drawn)
footprint 轻触开关侧按3*6*3.5
pins: 1, 2, 3, 4

## 锂电池焊盘
designator J?
footprint 锂电池焊盘
pins: 1 +, 2 -